# Altium integrated library Microchip UNIO Serial EEPROM.IntLib: 98 symbols (part 1 of 3)
Pins are listed as number, name and electrical type; pins without a type are passive.

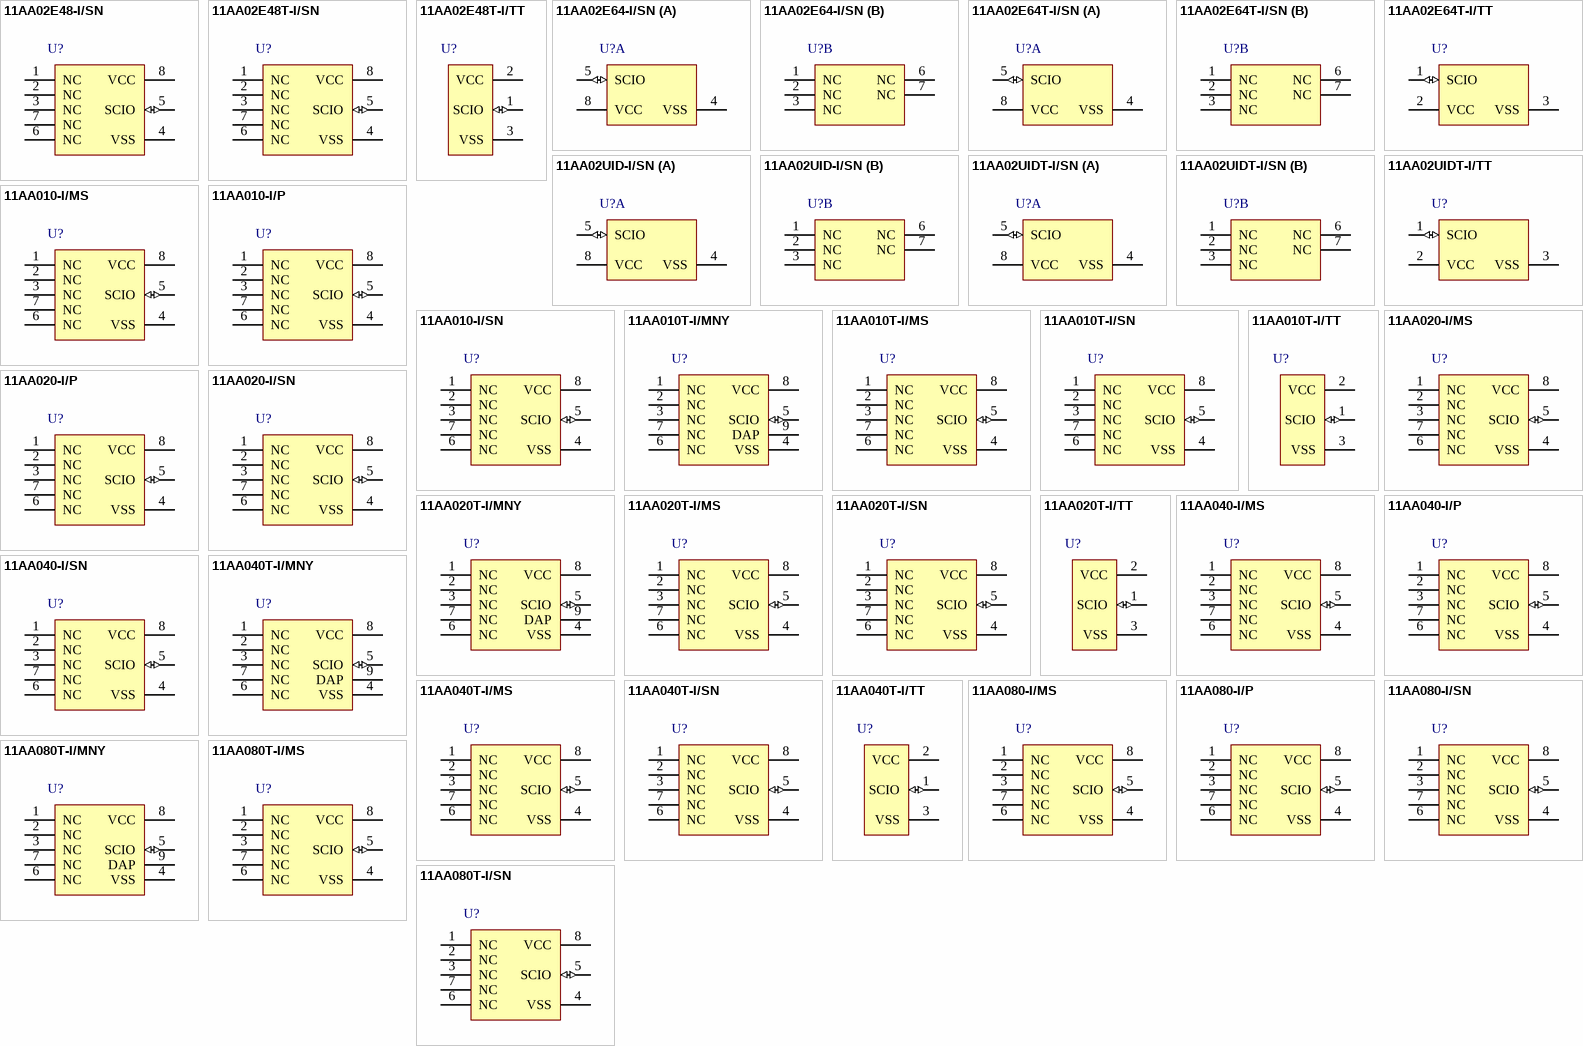
[diagram p0: symbols 11AA02E48-I/SN to 11AA080T-I/SN]

## 11AA02E48-I/SN
designator U?
2K UNI/O® Serial EEPROM with EUI-48 Node Identity, 8-Pin SOIC, Industrial Temperature; Manufacturer: Microchip; PartNumber: 11AA02E48-I/SN; DatasheetVersion: revA, Dec-2008; PackageVersion: revBB, Aug-2009; PackageReference: SOIC-SN8; PackageDescription: 8-Lead Plastic Small Outline (SN) - Narrow, 3.90mm Body [SOIC]; Supplier 1: Digi-Key; Supplier Part Number 1: 11AA02E48-I/SN-ND; Supplier 2: Farnell; Supplier Part Number 2: 1707615; Supplier 3: Newark; Supplier Part Number 3: 45P4890; Supplier 4: Mouser; Supplier Part Number 4: 579-11AA02E48-I/SN; Mounting Technology: Surface Mount; Code_JEDEC: MS-012; Code_IPC: SOIC127P600-8; ComponentLink1Description: Manufacturer URL; ComponentLink1URL: http://www.microchip.com/; ComponentLink2Description: Datasheet; ComponentLink2URL: http://ww1.microchip.com/downloads/en/DeviceDoc/22122A.pdf; ComponentLink3Description: Package Specification; ComponentLink3URL: http://www.microchip.com/stellent/groups/techpub_sg/documents/packagingspec/en012702.pdf
footprint SOIC-SN8_N (SOIC, 8-Leads, Body 4.9x3.8mm, Pitch 1.27mm, IPC Medium Density)
footprint SOIC-SN8_L (SOIC, 8-Leads, Body 4.9x3.8mm, Pitch 1.27mm, IPC High Density)
footprint SOIC-SN8_M (SOIC, 8-Leads, Body 4.9x3.8mm, Pitch 1.27mm, IPC Low Density)
pins: 1 NC, 2 NC, 3 NC, 4 VSS (power), 5 SCIO (io), 6 NC, 7 NC, 8 VCC (power)

## 11AA02E48T-I/SN
designator U?
2K UNI/O® Serial EEPROM with EUI-48 Node Identity, 8-Pin SOIC, Industrial Temperature, Tape and Reel; Manufacturer: Microchip; PartNumber: 11AA02E48T-I/SN; DatasheetVersion: revA, Dec-2008; PackageVersion: revBB, Aug-2009; PackageReference: SOIC-SN8; PackageDescription: 8-Lead Plastic Small Outline (SN) - Narrow, 3.90mm Body [SOIC]; Supplier 1: Digi-Key; Supplier Part Number 1: 11AA02E48T-I/SN-ND; Supplier 2: Mouser; Supplier Part Number 2: 579-11AA02E48T-I/SN; Mounting Technology: Surface Mount; Code_JEDEC: MS-012; Code_IPC: SOIC127P600-8; ComponentLink1Description: Manufacturer URL; ComponentLink1URL: http://www.microchip.com/; ComponentLink2Description: Datasheet; ComponentLink2URL: http://ww1.microchip.com/downloads/en/DeviceDoc/22122A.pdf; ComponentLink3Description: Package Specification; ComponentLink3URL: http://www.microchip.com/stellent/groups/techpub_sg/documents/packagingspec/en012702.pdf
footprint SOIC-SN8_N (SOIC, 8-Leads, Body 4.9x3.8mm, Pitch 1.27mm, IPC Medium Density)
footprint SOIC-SN8_L (SOIC, 8-Leads, Body 4.9x3.8mm, Pitch 1.27mm, IPC High Density)
footprint SOIC-SN8_M (SOIC, 8-Leads, Body 4.9x3.8mm, Pitch 1.27mm, IPC Low Density)
pins: 1 NC, 2 NC, 3 NC, 4 VSS (power), 5 SCIO (io), 6 NC, 7 NC, 8 VCC (power)

## 11AA02E48T-I/TT
designator U?
2K UNI/O® Serial EEPROM with EUI-48 Node Identity, 3-Pin SOT-23, Industrial Temperature, Tape and Reel; Manufacturer: Microchip; PartNumber: 11AA02E48T-I/TT; DatasheetVersion: revA, Dec-2008; PackageVersion: revBB, Aug-2009; PackageReference: SOT-23-TT3; PackageDescription: 3-Lead Plastic Small Outline Transistor (TT) [SOT-23]; Supplier 1: Digi-Key; Supplier Part Number 1: 11AA02E48T-I/TTTR-ND; Supplier 2: Digi-Key; Supplier Part Number 2: 11AA02E48T-I/TTCT-ND; Supplier 3: Digi-Key; Supplier Part Number 3: 11AA02E48T-I/TTDKR-ND; Supplier 4: Farnell; Supplier Part Number 4: 1707616RL; Supplier 5: Farnell; Supplier Part Number 5: 1707616; Supplier 6: Newark; Supplier Part Number 6: 45P4892; Supplier 7: Mouser; Supplier Part Number 7: 579-11AA02E48T-I/TT; Mounting Technology: Surface Mount; Code_IPC: SOT23-3; ComponentLink1Description: Manufacturer URL; ComponentLink1URL: http://www.microchip.com/; ComponentLink2Description: Datasheet; ComponentLink2URL: http://ww1.microchip.com/downloads/en/DeviceDoc/22122A.pdf; ComponentLink3Description: Package Specification; ComponentLink3URL: http://www.microchip.com/stellent/groups/techpub_sg/documents/packagingspec/en012702.pdf
footprint SOT-23-TT3_N (SOT23, 3-Leads, Body 2.9x1.3mm, Pitch 0.95mm, Lead Span 2.4mm, IPC Medium Density)
footprint SOT-23-TT3_L (SOT23, 3-Leads, Body 2.9x1.3mm, Pitch 0.95mm, Lead Span 2.4mm, IPC High Density)
footprint SOT-23-TT3_M (SOT23, 3-Leads, Body 2.9x1.3mm, Pitch 0.95mm, Lead Span 2.4mm, IPC Low Density)
pins: 1 SCIO (io), 2 VCC (power), 3 VSS (power)

## 11AA02E64-I/SN
designator U?
2K UNI/O(R) Serial EEPROMs with EUI-64 Node Identity, Industrial Temperature, 8-Pin SOIC (SN8), Tube; Manufacturer: Microchip; PartNumber: 11AA02E64-I/SN; VCC Range: 1.8 to 5.5 V; DatasheetVersion: Rev. B; PackageVersion: C04-057C, 12/2012; PackageReference: SOIC-SN8; PackageDescription: 8-Lead Plastic Small Outline, 4.9 x 3.9 mm Body, 1.27 mm Pitch; Supplier 1: Digi-Key; Supplier Part Number 1: 11AA02E64-I/SN-ND; Supplier 2: Farnell; Supplier Part Number 2: 2345562; Supplier 3: Newark; Supplier Part Number 3: 66W7453; Supplier 4: Newark; Supplier Part Number 4: 01X0294; Supplier 5: Mouser; Supplier Part Number 5: 579-11AA02E64-I/SN; Packing: Tube; Mounting Technology: Surface Mount; ComponentLink1Description: Manufacturer URL; ComponentLink1URL: http://www.microchip.com/; ComponentLink2Description: Datasheet; ComponentLink2URL: http://ww1.microchip.com/downloads/en/DeviceDoc/20002122B.pdf; ComponentLink3Description: Package Specification; ComponentLink3URL: http://ww1.microchip.com/downloads/en/DeviceDoc/20002122B.pdf
footprint MCHP-SOIC-SN8_N (SOIC, 8-Leads, Body 4.9x3.9mm, Pitch 1.27mm, IPC Medium Density)
footprint MCHP-SOIC-SN8_L (SOIC, 8-Leads, Body 4.9x3.9mm, Pitch 1.27mm, IPC High Density)
footprint MCHP-SOIC-SN8_M (SOIC, 8-Leads, Body 4.9x3.9mm, Pitch 1.27mm, IPC Low Density)
part A pins: 4 VSS (power) "Ground", 5 SCIO (io) "Serial Clock, Data Input/Output", 8 VCC (power) "Supply Voltage"
part B pins: 1 NC "No Internal Connection", 2 NC "No Internal Connection", 3 NC "No Internal Connection", 6 NC "No Internal Connection", 7 NC "No Internal Connection"

## 11AA02E64T-I/SN
designator U?
2K UNI/O(R) Serial EEPROMs with EUI-64 Node Identity, Industrial Temperature, 8-Pin SOIC (SN8), Tape and Reel; Manufacturer: Microchip; PartNumber: 11AA02E64T-I/SN; VCC Range: 1.8 to 5.5 V; DatasheetVersion: Rev. B; PackageVersion: C04-057C, 12/2012; PackageReference: SOIC-SN8; PackageDescription: 8-Lead Plastic Small Outline, 4.9 x 3.9 mm Body, 1.27 mm Pitch; Supplier 1: Digi-Key; Supplier Part Number 1: 11AA02E64T-I/SN-ND; Supplier 2: Newark; Supplier Part Number 2: 66W7454; Supplier 3: Mouser; Supplier Part Number 3: 579-11AA02E64T-I/SN; Packing: Tape and Reel; Mounting Technology: Surface Mount; ComponentLink1Description: Manufacturer URL; ComponentLink1URL: http://www.microchip.com/; ComponentLink2Description: Datasheet; ComponentLink2URL: http://ww1.microchip.com/downloads/en/DeviceDoc/20002122B.pdf; ComponentLink3Description: Package Specification; ComponentLink3URL: http://ww1.microchip.com/downloads/en/DeviceDoc/20002122B.pdf
footprint MCHP-SOIC-SN8_N (SOIC, 8-Leads, Body 4.9x3.9mm, Pitch 1.27mm, IPC Medium Density)
footprint MCHP-SOIC-SN8_L (SOIC, 8-Leads, Body 4.9x3.9mm, Pitch 1.27mm, IPC High Density)
footprint MCHP-SOIC-SN8_M (SOIC, 8-Leads, Body 4.9x3.9mm, Pitch 1.27mm, IPC Low Density)
part A pins: 4 VSS (power) "Ground", 5 SCIO (io) "Serial Clock, Data Input/Output", 8 VCC (power) "Supply Voltage"
part B pins: 1 NC "No Internal Connection", 2 NC "No Internal Connection", 3 NC "No Internal Connection", 6 NC "No Internal Connection", 7 NC "No Internal Connection"

## 11AA02E64T-I/TT
designator U?
2K UNI/O(R) Serial EEPROMs with EUI-64 Node Identity, Industrial Temperature, 3-Pin SOT-23 (TT3), Tape and Reel; Manufacturer: Microchip; PartNumber: 11AA02E64T-I/TT; VCC Range: 1.8 to 5.5 V; DatasheetVersion: Rev. B; PackageVersion: C04-104B, 12/2012; PackageReference: SOT-23-TT3; PackageDescription: 3-Lead Plastic Small Outline Transistor, 2.9 x 1.3 mm Body, 0.95 mm Pitch; Supplier 1: Digi-Key; Supplier Part Number 1: 11AA02E64T-I/TTTR-ND; Supplier 2: Digi-Key; Supplier Part Number 2: 11AA02E64T-I/TTCT-ND; Supplier 3: Digi-Key; Supplier Part Number 3: 11AA02E64T-I/TTDKR-ND; Supplier 4: Farnell; Supplier Part Number 4: 2345563; Supplier 5: Farnell; Supplier Part Number 5: 2347517; Supplier 6: Newark; Supplier Part Number 6: 99W1948; Supplier 7: Newark; Supplier Part Number 7: 66W7455; Supplier 8: Newark; Supplier Part Number 8: 01X0295; Supplier 9: Mouser; Supplier Part Number 9: 579-11AA02E64T-I/TT; Packing: Tape and Reel; Mounting Technology: Surface Mount; ComponentLink1Description: Manufacturer URL; ComponentLink1URL: http://www.microchip.com/; ComponentLink2Description: Datasheet; ComponentLink2URL: http://ww1.microchip.com/downloads/en/DeviceDoc/20002122B.pdf; ComponentLink3Description: Package Specification; ComponentLink3URL: http://www.microchip.com/stellent/groups/techpub_sg/documents/packagingspec/en012702.pdf
footprint MCHP-SOT-23-TT3_N (SOT23, 3-Leads, Body 2.86x1.28mm, Pitch 0.95mm, IPC Medium Density)
footprint MCHP-SOT-23-TT3_L (SOT23, 3-Leads, Body 2.86x1.28mm, Pitch 0.95mm, IPC High Density)
footprint MCHP-SOT-23-TT3_M (SOT23, 3-Leads, Body 2.86x1.28mm, Pitch 0.95mm, IPC Low Density)
pins: 1 SCIO (io) "Serial Clock, Data Input/Output", 2 VCC (power) "Supply Voltage", 3 VSS (power) "Ground"

## 11AA02UID-I/SN
designator U?
2K UNI/O(R) Serial EEPROM with Unique 32-Bit Serial Number, Industrial Temperature, 8-Pin SOIC (SN8), Tube; Manufacturer: Microchip; PartNumber: 11AA02UID-I/SN; VCC Range: 1.8 to 5.5 V; DatasheetVersion: Rev. A; PackageVersion: C04-057C, 12/2012; PackageReference: SOIC-SN8; PackageDescription: 8-Lead Plastic Small Outline, 4.9 x 3.9 mm Body, 1.27 mm Pitch; Supplier 1: Digi-Key; Supplier Part Number 1: 11AA02UID-I/SN-ND; Supplier 2: Farnell; Supplier Part Number 2: 2345550; Supplier 3: Newark; Supplier Part Number 3: 70W1147; Supplier 4: Newark; Supplier Part Number 4: 01X0296; Supplier 5: Mouser; Supplier Part Number 5: 579-11AA02UID-I/SN; Packing: Tube; Mounting Technology: Surface Mount; ComponentLink1Description: Manufacturer URL; ComponentLink1URL: http://www.microchip.com/; ComponentLink2Description: Datasheet; ComponentLink2URL: http://ww1.microchip.com/downloads/en/DeviceDoc/20005206A.pdf; ComponentLink3Description: Package Specification; ComponentLink3URL: http://ww1.microchip.com/downloads/en/DeviceDoc/20002122B.pdf
footprint MCHP-SOIC-SN8_N (SOIC, 8-Leads, Body 4.9x3.9mm, Pitch 1.27mm, IPC Medium Density)
footprint MCHP-SOIC-SN8_L (SOIC, 8-Leads, Body 4.9x3.9mm, Pitch 1.27mm, IPC High Density)
footprint MCHP-SOIC-SN8_M (SOIC, 8-Leads, Body 4.9x3.9mm, Pitch 1.27mm, IPC Low Density)
part A pins: 4 VSS (power) "Ground", 5 SCIO (io) "Serial Clock, Data Input/Output", 8 VCC (power) "Supply Voltage"
part B pins: 1 NC "No Internal Connection", 2 NC "No Internal Connection", 3 NC "No Internal Connection", 6 NC "No Internal Connection", 7 NC "No Internal Connection"

## 11AA02UIDT-I/SN
designator U?
2K UNI/O(R) Serial EEPROM with Unique 32-Bit Serial Number, Industrial Temperature, 8-Pin SOIC (SN8), Tape and Reel; Manufacturer: Microchip; PartNumber: 11AA02UIDT-I/SN; VCC Range: 1.8 to 5.5 V; DatasheetVersion: Rev. A; PackageVersion: C04-057C, 12/2012; PackageReference: SOIC-SN8; PackageDescription: 8-Lead Plastic Small Outline, 4.9 x 3.9 mm Body, 1.27 mm Pitch; Supplier 1: Digi-Key; Supplier Part Number 1: 11AA02UIDT-I/SN-ND; Supplier 2: Newark; Supplier Part Number 2: 70W1148; Supplier 3: Mouser; Supplier Part Number 3: 579-11AA02UIDT-I/SN; Packing: Tape and Reel; Mounting Technology: Surface Mount; ComponentLink1Description: Manufacturer URL; ComponentLink1URL: http://www.microchip.com/; ComponentLink2Description: Datasheet; ComponentLink2URL: http://ww1.microchip.com/downloads/en/DeviceDoc/20005206A.pdf; ComponentLink3Description: Package Specification; ComponentLink3URL: http://ww1.microchip.com/downloads/en/DeviceDoc/20002122B.pdf
footprint MCHP-SOIC-SN8_N (SOIC, 8-Leads, Body 4.9x3.9mm, Pitch 1.27mm, IPC Medium Density)
footprint MCHP-SOIC-SN8_L (SOIC, 8-Leads, Body 4.9x3.9mm, Pitch 1.27mm, IPC High Density)
footprint MCHP-SOIC-SN8_M (SOIC, 8-Leads, Body 4.9x3.9mm, Pitch 1.27mm, IPC Low Density)
part A pins: 4 VSS (power) "Ground", 5 SCIO (io) "Serial Clock, Data Input/Output", 8 VCC (power) "Supply Voltage"
part B pins: 1 NC "No Internal Connection", 2 NC "No Internal Connection", 3 NC "No Internal Connection", 6 NC "No Internal Connection", 7 NC "No Internal Connection"

## 11AA02UIDT-I/TT
designator U?
2K UNI/O(R) Serial EEPROM with Unique 32-Bit Serial Number, Industrial Temperature, 3-Pin SOT-23 (TT3), Tape and Reel; Manufacturer: Microchip; PartNumber: 11AA02UIDT-I/TT; VCC Range: 1.8 to 5.5 V; DatasheetVersion: Rev. A; PackageVersion: C04-104B, 12/2012; PackageReference: SOT-23-TT3; PackageDescription: 3-Lead Plastic Small Outline Transistor, 2.9 x 1.3 mm Body, 0.95 mm Pitch; Supplier 1: Digi-Key; Supplier Part Number 1: 11AA02UIDT-I/TTTR-ND; Supplier 2: Digi-Key; Supplier Part Number 2: 11AA02UIDT-I/TTCT-ND; Supplier 3: Digi-Key; Supplier Part Number 3: 11AA02UIDT-I/TTDKR-ND; Supplier 4: Farnell; Supplier Part Number 4: 2345551; Supplier 5: Farnell; Supplier Part Number 5: 2347524; Supplier 6: Newark; Supplier Part Number 6: 99W1949; Supplier 7: Newark; Supplier Part Number 7: 70W1149; Supplier 8: Newark; Supplier Part Number 8: 01X0297; Supplier 9: Mouser; Supplier Part Number 9: 579-11AA02UIDT-I/TT; Packing: Tape and Reel; Mounting Technology: Surface Mount; ComponentLink1Description: Manufacturer URL; ComponentLink1URL: http://www.microchip.com/; ComponentLink2Description: Datasheet; ComponentLink2URL: http://ww1.microchip.com/downloads/en/DeviceDoc/20005206A.pdf; ComponentLink3Description: Package Specification; ComponentLink3URL: http://www.microchip.com/stellent/groups/techpub_sg/documents/packagingspec/en012702.pdf
footprint MCHP-SOT-23-TT3_N (SOT23, 3-Leads, Body 2.86x1.28mm, Pitch 0.95mm, IPC Medium Density)
footprint MCHP-SOT-23-TT3_L (SOT23, 3-Leads, Body 2.86x1.28mm, Pitch 0.95mm, IPC High Density)
footprint MCHP-SOT-23-TT3_M (SOT23, 3-Leads, Body 2.86x1.28mm, Pitch 0.95mm, IPC Low Density)
pins: 1 SCIO (io) "Serial Clock, Data Input/Output", 2 VCC (power) "Supply Voltage", 3 VSS (power) "Ground"

## 11AA010-I/MS
designator U?
1KBit UNI/O® Serial EEPROM, 8-Pin MSOP, Industrial Temperature; Manufacturer: Microchip; PartNumber: 11AA010-I/MS; DatasheetVersion: revF, Oct-2009; PackageVersion: revBB, Aug-2009; PackageReference: MSOP-MS8; PackageDescription: 8-Lead Plastic Micro Small Outline Package (MS) [MSOP]; Supplier 1: Digi-Key; Supplier Part Number 1: 11AA010-I/MS-ND; Supplier 2: Mouser; Supplier Part Number 2: 579-11AA010-I/MS; Mounting Technology: Surface Mount; ComponentLink1Description: Manufacturer URL; ComponentLink1URL: http://www.microchip.com/; ComponentLink2Description: Datasheet; ComponentLink2URL: http://ww1.microchip.com/downloads/en/DeviceDoc/22067F.pdf; ComponentLink3Description: Package Specification; ComponentLink3URL: http://www.microchip.com/stellent/groups/techpub_sg/documents/packagingspec/en012702.pdf
footprint MSOP-MS8_N (TSOP, 8-Leads, Body 3x3mm, Pitch 0.65mm, IPC Medium Density)
footprint MSOP-MS8_L (TSOP, 8-Leads, Body 3x3mm, Pitch 0.65mm, IPC High Density)
footprint MSOP-MS8_M (TSOP, 8-Leads, Body 3x3mm, Pitch 0.65mm, IPC Low Density)
pins: 1 NC, 2 NC, 3 NC, 4 VSS (power), 5 SCIO (io), 6 NC, 7 NC, 8 VCC (power)

## 11AA010-I/P
designator U?
1KBit UNI/O® Serial EEPROM, 8-Pin PDIP, Industrial Temperature; Manufacturer: Microchip; PartNumber: 11AA010-I/P; DatasheetVersion: revF, Oct-2009; PackageVersion: revBB, Aug-2009; PackageReference: PDIP300-P8; PackageDescription: 8-Lead Plastic Dual In-Line (P) - 300 mil Body [PDIP]; Supplier 1: Digi-Key; Supplier Part Number 1: 11AA010-I/P-ND; Supplier 2: Farnell; Supplier Part Number 2: 1578282; Supplier 3: Newark; Supplier Part Number 3: 98M4922; Supplier 4: Mouser; Supplier Part Number 4: 579-11AA010-I/P; Mounting Technology: Through Hole; Code_JEDEC: MS-001; ComponentLink1Description: Manufacturer URL; ComponentLink1URL: http://www.microchip.com/; ComponentLink2Description: Datasheet; ComponentLink2URL: http://ww1.microchip.com/downloads/en/DeviceDoc/22067F.pdf; ComponentLink3Description: Package Specification; ComponentLink3URL: http://www.microchip.com/stellent/groups/techpub_sg/documents/packagingspec/en012702.pdf
footprint PDIP300-P8 (DIP, 8-Leads, Row Spacing 7.62mm, Pitch 2.54mm, Body 9.5x6.6mm)
pins: 1 NC, 2 NC, 3 NC, 4 VSS (power), 5 SCIO (io), 6 NC, 7 NC, 8 VCC (power)

## 11AA010-I/SN
designator U?
1KBit UNI/O® Serial EEPROM, 8-Pin SOIC, Industrial Temperature; Manufacturer: Microchip; PartNumber: 11AA010-I/SN; DatasheetVersion: revF, Oct-2009; PackageVersion: revBB, Aug-2009; PackageReference: SOIC-SN8; PackageDescription: 8-Lead Plastic Small Outline (SN) - Narrow, 3.90mm Body [SOIC]; Supplier 1: Digi-Key; Supplier Part Number 1: 11AA010-I/SN-ND; Supplier 2: Newark; Supplier Part Number 2: 98M4923; Supplier 3: Mouser; Supplier Part Number 3: 579-11AA010-I/SN; Mounting Technology: Surface Mount; Code_JEDEC: MS-012; Code_IPC: SOIC127P600-8; ComponentLink1Description: Manufacturer URL; ComponentLink1URL: http://www.microchip.com/; ComponentLink2Description: Datasheet; ComponentLink2URL: http://ww1.microchip.com/downloads/en/DeviceDoc/22067F.pdf; ComponentLink3Description: Package Specification; ComponentLink3URL: http://www.microchip.com/stellent/groups/techpub_sg/documents/packagingspec/en012702.pdf
footprint SOIC-SN8_N (SOIC, 8-Leads, Body 4.9x3.8mm, Pitch 1.27mm, IPC Medium Density)
footprint SOIC-SN8_L (SOIC, 8-Leads, Body 4.9x3.8mm, Pitch 1.27mm, IPC High Density)
footprint SOIC-SN8_M (SOIC, 8-Leads, Body 4.9x3.8mm, Pitch 1.27mm, IPC Low Density)
pins: 1 NC, 2 NC, 3 NC, 4 VSS (power), 5 SCIO (io), 6 NC, 7 NC, 8 VCC (power)

## 11AA010T-I/MNY
designator U?
1KBit UNI/O® Serial EEPROM, 8-Pin TDFN, Industrial Temperature, Tape and Reel; Manufacturer: Microchip; PartNumber: 11AA010T-I/MNY; DatasheetVersion: revF, Oct-2009; PackageVersion: revBB, Aug-2009; PackageReference: TDFN-MN8; PackageDescription: 8-Lead Plastic Dual Flat, No Lead Package (MN) - 2x3x0.75mm Body [TDFN]; Supplier 1: Digi-Key; Supplier Part Number 1: 11AA010T-I/MNYTR-ND; Supplier 2: Digi-Key; Supplier Part Number 2: 11AA010T-I/MNYCT-ND; Supplier 3: Digi-Key; Supplier Part Number 3: 11AA010T-I/MNYDKR-ND; Supplier 4: Farnell; Supplier Part Number 4: 1670434RL; Supplier 5: Farnell; Supplier Part Number 5: 1670434; Supplier 6: Newark; Supplier Part Number 6: 98M4924; Supplier 7: Mouser; Supplier Part Number 7: 579-11AA010T-I/MNY; Mounting Technology: Surface Mount; ComponentLink1Description: Manufacturer URL; ComponentLink1URL: http://www.microchip.com/; ComponentLink2Description: Datasheet; ComponentLink2URL: http://ww1.microchip.com/downloads/en/DeviceDoc/22067F.pdf; ComponentLink3Description: Package Specification; ComponentLink3URL: http://www.microchip.com/stellent/groups/techpub_sg/documents/packagingspec/en012702.pdf
footprint TDFN-MN8 (SON, 8-Leads, Body 2x3mm, Pitch 0.5mm, Microchip Recommended)
pins: 1 NC, 2 NC, 3 NC, 4 VSS (power), 5 SCIO (io), 6 NC, 7 NC, 8 VCC (power), 9 DAP

## 11AA010T-I/MS
designator U?
1KBit UNI/O® Serial EEPROM, 8-Pin MSOP, Industrial Temperature, Tape and Reel; Manufacturer: Microchip; PartNumber: 11AA010T-I/MS; DatasheetVersion: revF, Oct-2009; PackageVersion: revBB, Aug-2009; PackageReference: MSOP-MS8; PackageDescription: 8-Lead Plastic Micro Small Outline Package (MS) [MSOP]; Supplier 1: Digi-Key; Supplier Part Number 1: 11AA010T-I/MS-ND; Supplier 2: Mouser; Supplier Part Number 2: 579-11AA010T-I/MS; Mounting Technology: Surface Mount; ComponentLink1Description: Manufacturer URL; ComponentLink1URL: http://www.microchip.com/; ComponentLink2Description: Datasheet; ComponentLink2URL: http://ww1.microchip.com/downloads/en/DeviceDoc/22067F.pdf; ComponentLink3Description: Package Specification; ComponentLink3URL: http://www.microchip.com/stellent/groups/techpub_sg/documents/packagingspec/en012702.pdf
footprint MSOP-MS8_N (TSOP, 8-Leads, Body 3x3mm, Pitch 0.65mm, IPC Medium Density)
footprint MSOP-MS8_L (TSOP, 8-Leads, Body 3x3mm, Pitch 0.65mm, IPC High Density)
footprint MSOP-MS8_M (TSOP, 8-Leads, Body 3x3mm, Pitch 0.65mm, IPC Low Density)
pins: 1 NC, 2 NC, 3 NC, 4 VSS (power), 5 SCIO (io), 6 NC, 7 NC, 8 VCC (power)

## 11AA010T-I/SN
designator U?
1KBit UNI/O® Serial EEPROM, 8-Pin SOIC, Industrial Temperature, Tape and Reel; Manufacturer: Microchip; PartNumber: 11AA010T-I/SN; DatasheetVersion: revF, Oct-2009; PackageVersion: revBB, Aug-2009; PackageReference: SOIC-SN8; PackageDescription: 8-Lead Plastic Small Outline (SN) - Narrow, 3.90mm Body [SOIC]; Supplier 1: Digi-Key; Supplier Part Number 1: 11AA010T-I/SN-ND; Supplier 2: Mouser; Supplier Part Number 2: 579-11AA010T-I/SN; Mounting Technology: Surface Mount; Code_JEDEC: MS-012; Code_IPC: SOIC127P600-8; ComponentLink1Description: Manufacturer URL; ComponentLink1URL: http://www.microchip.com/; ComponentLink2Description: Datasheet; ComponentLink2URL: http://ww1.microchip.com/downloads/en/DeviceDoc/22067F.pdf; ComponentLink3Description: Package Specification; ComponentLink3URL: http://www.microchip.com/stellent/groups/techpub_sg/documents/packagingspec/en012702.pdf
footprint SOIC-SN8_N (SOIC, 8-Leads, Body 4.9x3.8mm, Pitch 1.27mm, IPC Medium Density)
footprint SOIC-SN8_L (SOIC, 8-Leads, Body 4.9x3.8mm, Pitch 1.27mm, IPC High Density)
footprint SOIC-SN8_M (SOIC, 8-Leads, Body 4.9x3.8mm, Pitch 1.27mm, IPC Low Density)
pins: 1 NC, 2 NC, 3 NC, 4 VSS (power), 5 SCIO (io), 6 NC, 7 NC, 8 VCC (power)

## 11AA010T-I/TT
designator U?
1KBit UNI/O® Serial EEPROM, 3-Pin SOT-23, Industrial Temperature, Tape and Reel; Manufacturer: Microchip; PartNumber: 11AA010T-I/TT; DatasheetVersion: revF, Oct-2009; PackageVersion: revBB, Aug-2009; PackageReference: SOT-23-TT3; PackageDescription: 3-Lead Plastic Small Outline Transistor (TT) [SOT-23]; Supplier 1: Digi-Key; Supplier Part Number 1: 11AA010T-I/TTTR-ND; Supplier 2: Digi-Key; Supplier Part Number 2: 11AA010T-I/TTCT-ND; Supplier 3: Digi-Key; Supplier Part Number 3: 11AA010T-I/TTDKR-ND; Supplier 4: Farnell; Supplier Part Number 4: 1578281; Supplier 5: Farnell; Supplier Part Number 5: 1578281RL; Supplier 6: Newark; Supplier Part Number 6: 98M4927; Supplier 7: Mouser; Supplier Part Number 7: 579-11AA010T-I/TT; Mounting Technology: Surface Mount; Code_IPC: SOT23-3; ComponentLink1Description: Manufacturer URL; ComponentLink1URL: http://www.microchip.com/; ComponentLink2Description: Datasheet; ComponentLink2URL: http://ww1.microchip.com/downloads/en/DeviceDoc/22067F.pdf; ComponentLink3Description: Package Specification; ComponentLink3URL: http://www.microchip.com/stellent/groups/techpub_sg/documents/packagingspec/en012702.pdf
footprint SOT-23-TT3_N (SOT23, 3-Leads, Body 2.9x1.3mm, Pitch 0.95mm, Lead Span 2.4mm, IPC Medium Density)
footprint SOT-23-TT3_L (SOT23, 3-Leads, Body 2.9x1.3mm, Pitch 0.95mm, Lead Span 2.4mm, IPC High Density)
footprint SOT-23-TT3_M (SOT23, 3-Leads, Body 2.9x1.3mm, Pitch 0.95mm, Lead Span 2.4mm, IPC Low Density)
pins: 1 SCIO (io), 2 VCC (power), 3 VSS (power)

## 11AA020-I/MS
designator U?
2KBit UNI/O® Serial EEPROM, 8-Pin MSOP, Industrial Temperature; Manufacturer: Microchip; PartNumber: 11AA020-I/MS; DatasheetVersion: revF, Oct-2009; PackageVersion: revBB, Aug-2009; PackageReference: MSOP-MS8; PackageDescription: 8-Lead Plastic Micro Small Outline Package (MS) [MSOP]; Supplier 1: Digi-Key; Supplier Part Number 1: 11AA020-I/MS-ND; Supplier 2: Mouser; Supplier Part Number 2: 579-11AA020-I/MS; Mounting Technology: Surface Mount; ComponentLink1Description: Manufacturer URL; ComponentLink1URL: http://www.microchip.com/; ComponentLink2Description: Datasheet; ComponentLink2URL: http://ww1.microchip.com/downloads/en/DeviceDoc/22067F.pdf; ComponentLink3Description: Package Specification; ComponentLink3URL: http://www.microchip.com/stellent/groups/techpub_sg/documents/packagingspec/en012702.pdf
footprint MSOP-MS8_N (TSOP, 8-Leads, Body 3x3mm, Pitch 0.65mm, IPC Medium Density)
footprint MSOP-MS8_L (TSOP, 8-Leads, Body 3x3mm, Pitch 0.65mm, IPC High Density)
footprint MSOP-MS8_M (TSOP, 8-Leads, Body 3x3mm, Pitch 0.65mm, IPC Low Density)
pins: 1 NC, 2 NC, 3 NC, 4 VSS (power), 5 SCIO (io), 6 NC, 7 NC, 8 VCC (power)

## 11AA020-I/P
designator U?
2KBit UNI/O® Serial EEPROM, 8-Pin PDIP, Industrial Temperature; Manufacturer: Microchip; PartNumber: 11AA020-I/P; DatasheetVersion: revF, Oct-2009; PackageVersion: revBB, Aug-2009; PackageReference: PDIP300-P8; PackageDescription: 8-Lead Plastic Dual In-Line (P) - 300 mil Body [PDIP]; Supplier 1: Digi-Key; Supplier Part Number 1: 11AA020-I/P-ND; Supplier 2: Farnell; Supplier Part Number 2: 1578289; Supplier 3: Newark; Supplier Part Number 3: 98M4930; Supplier 4: Mouser; Supplier Part Number 4: 579-11AA020-I/P; Mounting Technology: Through Hole; Code_JEDEC: MS-001; ComponentLink1Description: Manufacturer URL; ComponentLink1URL: http://www.microchip.com/; ComponentLink2Description: Datasheet; ComponentLink2URL: http://ww1.microchip.com/downloads/en/DeviceDoc/22067F.pdf; ComponentLink3Description: Package Specification; ComponentLink3URL: http://www.microchip.com/stellent/groups/techpub_sg/documents/packagingspec/en012702.pdf
footprint PDIP300-P8 (DIP, 8-Leads, Row Spacing 7.62mm, Pitch 2.54mm, Body 9.5x6.6mm)
pins: 1 NC, 2 NC, 3 NC, 4 VSS (power), 5 SCIO (io), 6 NC, 7 NC, 8 VCC (power)

## 11AA020-I/SN
designator U?
2KBit UNI/O® Serial EEPROM, 8-Pin SOIC, Industrial Temperature; Manufacturer: Microchip; PartNumber: 11AA020-I/SN; DatasheetVersion: revF, Oct-2009; PackageVersion: revBB, Aug-2009; PackageReference: SOIC-SN8; PackageDescription: 8-Lead Plastic Small Outline (SN) - Narrow, 3.90mm Body [SOIC]; Supplier 1: Digi-Key; Supplier Part Number 1: 11AA020-I/SN-ND; Supplier 2: Farnell; Supplier Part Number 2: 1578290; Supplier 3: Newark; Supplier Part Number 3: 98M4931; Supplier 4: Mouser; Supplier Part Number 4: 579-11AA020-I/SN; Mounting Technology: Surface Mount; Code_JEDEC: MS-012; Code_IPC: SOIC127P600-8; ComponentLink1Description: Manufacturer URL; ComponentLink1URL: http://www.microchip.com/; ComponentLink2Description: Datasheet; ComponentLink2URL: http://ww1.microchip.com/downloads/en/DeviceDoc/22067F.pdf; ComponentLink3Description: Package Specification; ComponentLink3URL: http://www.microchip.com/stellent/groups/techpub_sg/documents/packagingspec/en012702.pdf
footprint SOIC-SN8_N (SOIC, 8-Leads, Body 4.9x3.8mm, Pitch 1.27mm, IPC Medium Density)
footprint SOIC-SN8_L (SOIC, 8-Leads, Body 4.9x3.8mm, Pitch 1.27mm, IPC High Density)
footprint SOIC-SN8_M (SOIC, 8-Leads, Body 4.9x3.8mm, Pitch 1.27mm, IPC Low Density)
pins: 1 NC, 2 NC, 3 NC, 4 VSS (power), 5 SCIO (io), 6 NC, 7 NC, 8 VCC (power)

## 11AA020T-I/MNY
designator U?
2KBit UNI/O® Serial EEPROM, 8-Pin TDFN, Industrial Temperature, Tape and Reel; Manufacturer: Microchip; PartNumber: 11AA020T-I/MNY; DatasheetVersion: revF, Oct-2009; PackageVersion: revBB, Aug-2009; PackageReference: TDFN-MN8; PackageDescription: 8-Lead Plastic Dual Flat, No Lead Package (MN) - 2x3x0.75mm Body [TDFN]; Supplier 1: Digi-Key; Supplier Part Number 1: 11AA020T-I/MNYTR-ND; Supplier 2: Digi-Key; Supplier Part Number 2: 11AA020T-I/MNYCT-ND; Supplier 3: Digi-Key; Supplier Part Number 3: 11AA020T-I/MNYDKR-ND; Supplier 4: Farnell; Supplier Part Number 4: 1670435; Supplier 5: Farnell; Supplier Part Number 5: 1670435RL; Supplier 6: Newark; Supplier Part Number 6: 98M4932; Supplier 7: Mouser; Supplier Part Number 7: 579-11AA020T-I/MNY; Mounting Technology: Surface Mount; ComponentLink1Description: Manufacturer URL; ComponentLink1URL: http://www.microchip.com/; ComponentLink2Description: Datasheet; ComponentLink2URL: http://ww1.microchip.com/downloads/en/DeviceDoc/22067F.pdf; ComponentLink3Description: Package Specification; ComponentLink3URL: http://www.microchip.com/stellent/groups/techpub_sg/documents/packagingspec/en012702.pdf
footprint TDFN-MN8 (SON, 8-Leads, Body 2x3mm, Pitch 0.5mm, Microchip Recommended)
pins: 1 NC, 2 NC, 3 NC, 4 VSS (power), 5 SCIO (io), 6 NC, 7 NC, 8 VCC (power), 9 DAP

## 11AA020T-I/MS
designator U?
2KBit UNI/O® Serial EEPROM, 8-Pin MSOP, Industrial Temperature, Tape and Reel; Manufacturer: Microchip; PartNumber: 11AA020T-I/MS; DatasheetVersion: revF, Oct-2009; PackageVersion: revBB, Aug-2009; PackageReference: MSOP-MS8; PackageDescription: 8-Lead Plastic Micro Small Outline Package (MS) [MSOP]; Supplier 1: Digi-Key; Supplier Part Number 1: 11AA020T-I/MS-ND; Supplier 2: Mouser; Supplier Part Number 2: 579-11AA020T-I/MS; Mounting Technology: Surface Mount; ComponentLink1Description: Manufacturer URL; ComponentLink1URL: http://www.microchip.com/; ComponentLink2Description: Datasheet; ComponentLink2URL: http://ww1.microchip.com/downloads/en/DeviceDoc/22067F.pdf; ComponentLink3Description: Package Specification; ComponentLink3URL: http://www.microchip.com/stellent/groups/techpub_sg/documents/packagingspec/en012702.pdf
footprint MSOP-MS8_N (TSOP, 8-Leads, Body 3x3mm, Pitch 0.65mm, IPC Medium Density)
footprint MSOP-MS8_L (TSOP, 8-Leads, Body 3x3mm, Pitch 0.65mm, IPC High Density)
footprint MSOP-MS8_M (TSOP, 8-Leads, Body 3x3mm, Pitch 0.65mm, IPC Low Density)
pins: 1 NC, 2 NC, 3 NC, 4 VSS (power), 5 SCIO (io), 6 NC, 7 NC, 8 VCC (power)

## 11AA020T-I/SN
designator U?
2KBit UNI/O® Serial EEPROM, 8-Pin SOIC, Industrial Temperature, Tape and Reel; Manufacturer: Microchip; PartNumber: 11AA020T-I/SN; DatasheetVersion: revF, Oct-2009; PackageVersion: revBB, Aug-2009; PackageReference: SOIC-SN8; PackageDescription: 8-Lead Plastic Small Outline (SN) - Narrow, 3.90mm Body [SOIC]; Supplier 1: Digi-Key; Supplier Part Number 1: 11AA020T-I/SN-ND; Supplier 2: Mouser; Supplier Part Number 2: 579-11AA020T-I/SN; Mounting Technology: Surface Mount; Code_JEDEC: MS-012; Code_IPC: SOIC127P600-8; ComponentLink1Description: Manufacturer URL; ComponentLink1URL: http://www.microchip.com/; ComponentLink2Description: Datasheet; ComponentLink2URL: http://ww1.microchip.com/downloads/en/DeviceDoc/22067F.pdf; ComponentLink3Description: Package Specification; ComponentLink3URL: http://www.microchip.com/stellent/groups/techpub_sg/documents/packagingspec/en012702.pdf
footprint SOIC-SN8_N (SOIC, 8-Leads, Body 4.9x3.8mm, Pitch 1.27mm, IPC Medium Density)
footprint SOIC-SN8_L (SOIC, 8-Leads, Body 4.9x3.8mm, Pitch 1.27mm, IPC High Density)
footprint SOIC-SN8_M (SOIC, 8-Leads, Body 4.9x3.8mm, Pitch 1.27mm, IPC Low Density)
pins: 1 NC, 2 NC, 3 NC, 4 VSS (power), 5 SCIO (io), 6 NC, 7 NC, 8 VCC (power)

## 11AA020T-I/TT
designator U?
2KBit UNI/O® Serial EEPROM, 3-Pin SOT-23, Industrial Temperature, Tape and Reel; Manufacturer: Microchip; PartNumber: 11AA020T-I/TT; DatasheetVersion: revF, Oct-2009; PackageVersion: revBB, Aug-2009; PackageReference: SOT-23-TT3; PackageDescription: 3-Lead Plastic Small Outline Transistor (TT) [SOT-23]; Supplier 1: Digi-Key; Supplier Part Number 1: 11AA020T-I/TTTR-ND; Supplier 2: Digi-Key; Supplier Part Number 2: 11AA020T-I/TTCT-ND; Supplier 3: Digi-Key; Supplier Part Number 3: 11AA020T-I/TTDKR-ND; Supplier 4: Farnell; Supplier Part Number 4: 1578288RL; Supplier 5: Farnell; Supplier Part Number 5: 1578288; Supplier 6: Newark; Supplier Part Number 6: 98M4935; Supplier 7: Mouser; Supplier Part Number 7: 579-11AA020T-I/TT; Mounting Technology: Surface Mount; Code_IPC: SOT23-3; ComponentLink1Description: Manufacturer URL; ComponentLink1URL: http://www.microchip.com/; ComponentLink2Description: Datasheet; ComponentLink2URL: http://ww1.microchip.com/downloads/en/DeviceDoc/22067F.pdf; ComponentLink3Description: Package Specification; ComponentLink3URL: http://www.microchip.com/stellent/groups/techpub_sg/documents/packagingspec/en012702.pdf
footprint SOT-23-TT3_N (SOT23, 3-Leads, Body 2.9x1.3mm, Pitch 0.95mm, Lead Span 2.4mm, IPC Medium Density)
footprint SOT-23-TT3_L (SOT23, 3-Leads, Body 2.9x1.3mm, Pitch 0.95mm, Lead Span 2.4mm, IPC High Density)
footprint SOT-23-TT3_M (SOT23, 3-Leads, Body 2.9x1.3mm, Pitch 0.95mm, Lead Span 2.4mm, IPC Low Density)
pins: 1 SCIO (io), 2 VCC (power), 3 VSS (power)

## 11AA040-I/MS
designator U?
4KBit UNI/O® Serial EEPROM, 8-Pin MSOP, Industrial Temperature; Manufacturer: Microchip; PartNumber: 11AA040-I/MS; DatasheetVersion: revF, Oct-2009; PackageVersion: revBB, Aug-2009; PackageReference: MSOP-MS8; PackageDescription: 8-Lead Plastic Micro Small Outline Package (MS) [MSOP]; Supplier 1: Digi-Key; Supplier Part Number 1: 11AA040-I/MS-ND; Supplier 2: Mouser; Supplier Part Number 2: 579-11AA040-I/MS; Mounting Technology: Surface Mount; ComponentLink1Description: Manufacturer URL; ComponentLink1URL: http://www.microchip.com/; ComponentLink2Description: Datasheet; ComponentLink2URL: http://ww1.microchip.com/downloads/en/DeviceDoc/22067F.pdf; ComponentLink3Description: Package Specification; ComponentLink3URL: http://www.microchip.com/stellent/groups/techpub_sg/documents/packagingspec/en012702.pdf
footprint MSOP-MS8_N (TSOP, 8-Leads, Body 3x3mm, Pitch 0.65mm, IPC Medium Density)
footprint MSOP-MS8_L (TSOP, 8-Leads, Body 3x3mm, Pitch 0.65mm, IPC High Density)
footprint MSOP-MS8_M (TSOP, 8-Leads, Body 3x3mm, Pitch 0.65mm, IPC Low Density)
pins: 1 NC, 2 NC, 3 NC, 4 VSS (power), 5 SCIO (io), 6 NC, 7 NC, 8 VCC (power)

## 11AA040-I/P
designator U?
4KBit UNI/O® Serial EEPROM, 8-Pin PDIP, Industrial Temperature; Manufacturer: Microchip; PartNumber: 11AA040-I/P; DatasheetVersion: revF, Oct-2009; PackageVersion: revBB, Aug-2009; PackageReference: PDIP300-P8; PackageDescription: 8-Lead Plastic Dual In-Line (P) - 300 mil Body [PDIP]; Supplier 1: Digi-Key; Supplier Part Number 1: 11AA040-I/P-ND; Supplier 2: Farnell; Supplier Part Number 2: 1578295; Supplier 3: Newark; Supplier Part Number 3: 98M4938; Supplier 4: Mouser; Supplier Part Number 4: 579-11AA040-I/P; Mounting Technology: Through Hole; Code_JEDEC: MS-001; ComponentLink1Description: Manufacturer URL; ComponentLink1URL: http://www.microchip.com/; ComponentLink2Description: Datasheet; ComponentLink2URL: http://ww1.microchip.com/downloads/en/DeviceDoc/22067F.pdf; ComponentLink3Description: Package Specification; ComponentLink3URL: http://www.microchip.com/stellent/groups/techpub_sg/documents/packagingspec/en012702.pdf
footprint PDIP300-P8 (DIP, 8-Leads, Row Spacing 7.62mm, Pitch 2.54mm, Body 9.5x6.6mm)
pins: 1 NC, 2 NC, 3 NC, 4 VSS (power), 5 SCIO (io), 6 NC, 7 NC, 8 VCC (power)

## 11AA040-I/SN
designator U?
4KBit UNI/O® Serial EEPROM, 8-Pin SOIC, Industrial Temperature; Manufacturer: Microchip; PartNumber: 11AA040-I/SN; DatasheetVersion: revF, Oct-2009; PackageVersion: revBB, Aug-2009; PackageReference: SOIC-SN8; PackageDescription: 8-Lead Plastic Small Outline (SN) - Narrow, 3.90mm Body [SOIC]; Supplier 1: Digi-Key; Supplier Part Number 1: 11AA040-I/SN-ND; Supplier 2: Farnell; Supplier Part Number 2: 1578296; Supplier 3: Newark; Supplier Part Number 3: 98M4939; Supplier 4: Mouser; Supplier Part Number 4: 579-11AA040-I/SN; Mounting Technology: Surface Mount; Code_JEDEC: MS-012; Code_IPC: SOIC127P600-8; ComponentLink1Description: Manufacturer URL; ComponentLink1URL: http://www.microchip.com/; ComponentLink2Description: Datasheet; ComponentLink2URL: http://ww1.microchip.com/downloads/en/DeviceDoc/22067F.pdf; ComponentLink3Description: Package Specification; ComponentLink3URL: http://www.microchip.com/stellent/groups/techpub_sg/documents/packagingspec/en012702.pdf
footprint SOIC-SN8_N (SOIC, 8-Leads, Body 4.9x3.8mm, Pitch 1.27mm, IPC Medium Density)
footprint SOIC-SN8_L (SOIC, 8-Leads, Body 4.9x3.8mm, Pitch 1.27mm, IPC High Density)
footprint SOIC-SN8_M (SOIC, 8-Leads, Body 4.9x3.8mm, Pitch 1.27mm, IPC Low Density)
pins: 1 NC, 2 NC, 3 NC, 4 VSS (power), 5 SCIO (io), 6 NC, 7 NC, 8 VCC (power)

## 11AA040T-I/MNY
designator U?
4KBit UNI/O® Serial EEPROM, 8-Pin TDFN, Industrial Temperature, Tape and Reel; Manufacturer: Microchip; PartNumber: 11AA040T-I/MNY; DatasheetVersion: revF, Oct-2009; PackageVersion: revBB, Aug-2009; PackageReference: TDFN-MN8; PackageDescription: 8-Lead Plastic Dual Flat, No Lead Package (MN) - 2x3x0.75mm Body [TDFN]; Supplier 1: Digi-Key; Supplier Part Number 1: 11AA040T-I/MNYTR-ND; Supplier 2: Digi-Key; Supplier Part Number 2: 11AA040T-I/MNYCT-ND; Supplier 3: Digi-Key; Supplier Part Number 3: 11AA040T-I/MNYDKR-ND; Supplier 4: Farnell; Supplier Part Number 4: 1659723RL; Supplier 5: Farnell; Supplier Part Number 5: 1659723; Supplier 6: Newark; Supplier Part Number 6: 98M4940; Supplier 7: Mouser; Supplier Part Number 7: 579-11AA040T-I/MNY; Mounting Technology: Surface Mount; ComponentLink1Description: Manufacturer URL; ComponentLink1URL: http://www.microchip.com/; ComponentLink2Description: Datasheet; ComponentLink2URL: http://ww1.microchip.com/downloads/en/DeviceDoc/22067F.pdf; ComponentLink3Description: Package Specification; ComponentLink3URL: http://www.microchip.com/stellent/groups/techpub_sg/documents/packagingspec/en012702.pdf
footprint TDFN-MN8 (SON, 8-Leads, Body 2x3mm, Pitch 0.5mm, Microchip Recommended)
pins: 1 NC, 2 NC, 3 NC, 4 VSS (power), 5 SCIO (io), 6 NC, 7 NC, 8 VCC (power), 9 DAP

## 11AA040T-I/MS
designator U?
4KBit UNI/O® Serial EEPROM, 8-Pin MSOP, Industrial Temperature, Tape and Reel; Manufacturer: Microchip; PartNumber: 11AA040T-I/MS; DatasheetVersion: revF, Oct-2009; PackageVersion: revBB, Aug-2009; PackageReference: MSOP-MS8; PackageDescription: 8-Lead Plastic Micro Small Outline Package (MS) [MSOP]; Supplier 1: Digi-Key; Supplier Part Number 1: 11AA040T-I/MS-ND; Supplier 2: Mouser; Supplier Part Number 2: 579-11AA040T-I/MS; Mounting Technology: Surface Mount; ComponentLink1Description: Manufacturer URL; ComponentLink1URL: http://www.microchip.com/; ComponentLink2Description: Datasheet; ComponentLink2URL: http://ww1.microchip.com/downloads/en/DeviceDoc/22067F.pdf; ComponentLink3Description: Package Specification; ComponentLink3URL: http://www.microchip.com/stellent/groups/techpub_sg/documents/packagingspec/en012702.pdf
footprint MSOP-MS8_N (TSOP, 8-Leads, Body 3x3mm, Pitch 0.65mm, IPC Medium Density)
footprint MSOP-MS8_L (TSOP, 8-Leads, Body 3x3mm, Pitch 0.65mm, IPC High Density)
footprint MSOP-MS8_M (TSOP, 8-Leads, Body 3x3mm, Pitch 0.65mm, IPC Low Density)
pins: 1 NC, 2 NC, 3 NC, 4 VSS (power), 5 SCIO (io), 6 NC, 7 NC, 8 VCC (power)

## 11AA040T-I/SN
designator U?
4KBit UNI/O® Serial EEPROM, 8-Pin SOIC, Industrial Temperature, Tape and Reel; Manufacturer: Microchip; PartNumber: 11AA040T-I/SN; DatasheetVersion: revF, Oct-2009; PackageVersion: revBB, Aug-2009; PackageReference: SOIC-SN8; PackageDescription: 8-Lead Plastic Small Outline (SN) - Narrow, 3.90mm Body [SOIC]; Supplier 1: Digi-Key; Supplier Part Number 1: 11AA040T-I/SN-ND; Supplier 2: Mouser; Supplier Part Number 2: 579-11AA040T-I/SN; Mounting Technology: Surface Mount; Code_JEDEC: MS-012; Code_IPC: SOIC127P600-8; ComponentLink1Description: Manufacturer URL; ComponentLink1URL: http://www.microchip.com/; ComponentLink2Description: Datasheet; ComponentLink2URL: http://ww1.microchip.com/downloads/en/DeviceDoc/22067F.pdf; ComponentLink3Description: Package Specification; ComponentLink3URL: http://www.microchip.com/stellent/groups/techpub_sg/documents/packagingspec/en012702.pdf
footprint SOIC-SN8_N (SOIC, 8-Leads, Body 4.9x3.8mm, Pitch 1.27mm, IPC Medium Density)
footprint SOIC-SN8_L (SOIC, 8-Leads, Body 4.9x3.8mm, Pitch 1.27mm, IPC High Density)
footprint SOIC-SN8_M (SOIC, 8-Leads, Body 4.9x3.8mm, Pitch 1.27mm, IPC Low Density)
pins: 1 NC, 2 NC, 3 NC, 4 VSS (power), 5 SCIO (io), 6 NC, 7 NC, 8 VCC (power)

## 11AA040T-I/TT
designator U?
4KBit UNI/O® Serial EEPROM, 3-Pin SOT-23, Industrial Temperature, Tape and Reel; Manufacturer: Microchip; PartNumber: 11AA040T-I/TT; DatasheetVersion: revF, Oct-2009; PackageVersion: revBB, Aug-2009; PackageReference: SOT-23-TT3; PackageDescription: 3-Lead Plastic Small Outline Transistor (TT) [SOT-23]; Supplier 1: Digi-Key; Supplier Part Number 1: 11AA040T-I/TTTR-ND; Supplier 2: Digi-Key; Supplier Part Number 2: 11AA040T-I/TTCT-ND; Supplier 3: Digi-Key; Supplier Part Number 3: 11AA040T-I/TTDKR-ND; Supplier 4: Newark; Supplier Part Number 4: 98M4943; Supplier 5: Mouser; Supplier Part Number 5: 579-11AA040T-I/TT; Mounting Technology: Surface Mount; Code_IPC: SOT23-3; ComponentLink1Description: Manufacturer URL; ComponentLink1URL: http://www.microchip.com/; ComponentLink2Description: Datasheet; ComponentLink2URL: http://ww1.microchip.com/downloads/en/DeviceDoc/22067F.pdf; ComponentLink3Description: Package Specification; ComponentLink3URL: http://www.microchip.com/stellent/groups/techpub_sg/documents/packagingspec/en012702.pdf
footprint SOT-23-TT3_N (SOT23, 3-Leads, Body 2.9x1.3mm, Pitch 0.95mm, Lead Span 2.4mm, IPC Medium Density)
footprint SOT-23-TT3_L (SOT23, 3-Leads, Body 2.9x1.3mm, Pitch 0.95mm, Lead Span 2.4mm, IPC High Density)
footprint SOT-23-TT3_M (SOT23, 3-Leads, Body 2.9x1.3mm, Pitch 0.95mm, Lead Span 2.4mm, IPC Low Density)
pins: 1 SCIO (io), 2 VCC (power), 3 VSS (power)

## 11AA080-I/MS
designator U?
8KBit UNI/O® Serial EEPROM, 8-Pin MSOP, Industrial Temperature; Manufacturer: Microchip; PartNumber: 11AA080-I/MS; DatasheetVersion: revF, Oct-2009; PackageVersion: revBB, Aug-2009; PackageReference: MSOP-MS8; PackageDescription: 8-Lead Plastic Micro Small Outline Package (MS) [MSOP]; Supplier 1: Digi-Key; Supplier Part Number 1: 11AA080-I/MS-ND; Supplier 2: Mouser; Supplier Part Number 2: 579-11AA080-I/MS; Mounting Technology: Surface Mount; ComponentLink1Description: Manufacturer URL; ComponentLink1URL: http://www.microchip.com/; ComponentLink2Description: Datasheet; ComponentLink2URL: http://ww1.microchip.com/downloads/en/DeviceDoc/22067F.pdf; ComponentLink3Description: Package Specification; ComponentLink3URL: http://www.microchip.com/stellent/groups/techpub_sg/documents/packagingspec/en012702.pdf
footprint MSOP-MS8_N (TSOP, 8-Leads, Body 3x3mm, Pitch 0.65mm, IPC Medium Density)
footprint MSOP-MS8_L (TSOP, 8-Leads, Body 3x3mm, Pitch 0.65mm, IPC High Density)
footprint MSOP-MS8_M (TSOP, 8-Leads, Body 3x3mm, Pitch 0.65mm, IPC Low Density)
pins: 1 NC, 2 NC, 3 NC, 4 VSS (power), 5 SCIO (io), 6 NC, 7 NC, 8 VCC (power)

## 11AA080-I/P
designator U?
8KBit UNI/O® Serial EEPROM, 8-Pin PDIP, Industrial Temperature; Manufacturer: Microchip; PartNumber: 11AA080-I/P; DatasheetVersion: revF, Oct-2009; PackageVersion: revBB, Aug-2009; PackageReference: PDIP300-P8; PackageDescription: 8-Lead Plastic Dual In-Line (P) - 300 mil Body [PDIP]; Supplier 1: Digi-Key; Supplier Part Number 1: 11AA080-I/P-ND; Supplier 2: Farnell; Supplier Part Number 2: 1578304; Supplier 3: Newark; Supplier Part Number 3: 98M4946; Supplier 4: Mouser; Supplier Part Number 4: 579-11AA080-I/P; Mounting Technology: Through Hole; Code_JEDEC: MS-001; ComponentLink1Description: Manufacturer URL; ComponentLink1URL: http://www.microchip.com/; ComponentLink2Description: Datasheet; ComponentLink2URL: http://ww1.microchip.com/downloads/en/DeviceDoc/22067F.pdf; ComponentLink3Description: Package Specification; ComponentLink3URL: http://www.microchip.com/stellent/groups/techpub_sg/documents/packagingspec/en012702.pdf
footprint PDIP300-P8 (DIP, 8-Leads, Row Spacing 7.62mm, Pitch 2.54mm, Body 9.5x6.6mm)
pins: 1 NC, 2 NC, 3 NC, 4 VSS (power), 5 SCIO (io), 6 NC, 7 NC, 8 VCC (power)

## 11AA080-I/SN
designator U?
8KBit UNI/O® Serial EEPROM, 8-Pin SOIC, Industrial Temperature; Manufacturer: Microchip; PartNumber: 11AA080-I/SN; DatasheetVersion: revF, Oct-2009; PackageVersion: revBB, Aug-2009; PackageReference: SOIC-SN8; PackageDescription: 8-Lead Plastic Small Outline (SN) - Narrow, 3.90mm Body [SOIC]; Supplier 1: Digi-Key; Supplier Part Number 1: 11AA080-I/SN-ND; Supplier 2: Farnell; Supplier Part Number 2: 1578305; Supplier 3: Newark; Supplier Part Number 3: 98M4947; Supplier 4: Mouser; Supplier Part Number 4: 579-11AA080-I/SN; Mounting Technology: Surface Mount; Code_JEDEC: MS-012; Code_IPC: SOIC127P600-8; ComponentLink1Description: Manufacturer URL; ComponentLink1URL: http://www.microchip.com/; ComponentLink2Description: Datasheet; ComponentLink2URL: http://ww1.microchip.com/downloads/en/DeviceDoc/22067F.pdf; ComponentLink3Description: Package Specification; ComponentLink3URL: http://www.microchip.com/stellent/groups/techpub_sg/documents/packagingspec/en012702.pdf
footprint SOIC-SN8_N (SOIC, 8-Leads, Body 4.9x3.8mm, Pitch 1.27mm, IPC Medium Density)
footprint SOIC-SN8_L (SOIC, 8-Leads, Body 4.9x3.8mm, Pitch 1.27mm, IPC High Density)
footprint SOIC-SN8_M (SOIC, 8-Leads, Body 4.9x3.8mm, Pitch 1.27mm, IPC Low Density)
pins: 1 NC, 2 NC, 3 NC, 4 VSS (power), 5 SCIO (io), 6 NC, 7 NC, 8 VCC (power)

## 11AA080T-I/MNY
designator U?
8KBit UNI/O® Serial EEPROM, 8-Pin TDFN, Industrial Temperature, Tape and Reel; Manufacturer: Microchip; PartNumber: 11AA080T-I/MNY; DatasheetVersion: revF, Oct-2009; PackageVersion: revBB, Aug-2009; PackageReference: TDFN-MN8; PackageDescription: 8-Lead Plastic Dual Flat, No Lead Package (MN) - 2x3x0.75mm Body [TDFN]; Supplier 1: Digi-Key; Supplier Part Number 1: 11AA080T-I/MNYTR-ND; Supplier 2: Digi-Key; Supplier Part Number 2: 11AA080T-I/MNYCT-ND; Supplier 3: Digi-Key; Supplier Part Number 3: 11AA080T-I/MNYDKR-ND; Supplier 4: Newark; Supplier Part Number 4: 98M4948; Supplier 5: Mouser; Supplier Part Number 5: 579-11AA080T-I/MNY; Mounting Technology: Surface Mount; ComponentLink1Description: Manufacturer URL; ComponentLink1URL: http://www.microchip.com/; ComponentLink2Description: Datasheet; ComponentLink2URL: http://ww1.microchip.com/downloads/en/DeviceDoc/22067F.pdf; ComponentLink3Description: Package Specification; ComponentLink3URL: http://www.microchip.com/stellent/groups/techpub_sg/documents/packagingspec/en012702.pdf
footprint TDFN-MN8 (SON, 8-Leads, Body 2x3mm, Pitch 0.5mm, Microchip Recommended)
pins: 1 NC, 2 NC, 3 NC, 4 VSS (power), 5 SCIO (io), 6 NC, 7 NC, 8 VCC (power), 9 DAP

## 11AA080T-I/MS
designator U?
8KBit UNI/O® Serial EEPROM, 8-Pin MSOP, Industrial Temperature, Tape and Reel; Manufacturer: Microchip; PartNumber: 11AA080T-I/MS; DatasheetVersion: revF, Oct-2009; PackageVersion: revBB, Aug-2009; PackageReference: MSOP-MS8; PackageDescription: 8-Lead Plastic Micro Small Outline Package (MS) [MSOP]; Supplier 1: Digi-Key; Supplier Part Number 1: 11AA080T-I/MS-ND; Supplier 2: Mouser; Supplier Part Number 2: 579-11AA080T-I/MS; Mounting Technology: Surface Mount; ComponentLink1Description: Manufacturer URL; ComponentLink1URL: http://www.microchip.com/; ComponentLink2Description: Datasheet; ComponentLink2URL: http://ww1.microchip.com/downloads/en/DeviceDoc/22067F.pdf; ComponentLink3Description: Package Specification; ComponentLink3URL: http://www.microchip.com/stellent/groups/techpub_sg/documents/packagingspec/en012702.pdf
footprint MSOP-MS8_N (TSOP, 8-Leads, Body 3x3mm, Pitch 0.65mm, IPC Medium Density)
footprint MSOP-MS8_L (TSOP, 8-Leads, Body 3x3mm, Pitch 0.65mm, IPC High Density)
footprint MSOP-MS8_M (TSOP, 8-Leads, Body 3x3mm, Pitch 0.65mm, IPC Low Density)
pins: 1 NC, 2 NC, 3 NC, 4 VSS (power), 5 SCIO (io), 6 NC, 7 NC, 8 VCC (power)

## 11AA080T-I/SN
designator U?
8KBit UNI/O® Serial EEPROM, 8-Pin SOIC, Industrial Temperature, Tape and Reel; Manufacturer: Microchip; PartNumber: 11AA080T-I/SN; DatasheetVersion: revF, Oct-2009; PackageVersion: revBB, Aug-2009; PackageReference: SOIC-SN8; PackageDescription: 8-Lead Plastic Small Outline (SN) - Narrow, 3.90mm Body [SOIC]; Supplier 1: Digi-Key; Supplier Part Number 1: 11AA080T-I/SN-ND; Supplier 2: Mouser; Supplier Part Number 2: 579-11AA080T-I/SN; Mounting Technology: Surface Mount; Code_JEDEC: MS-012; Code_IPC: SOIC127P600-8; ComponentLink1Description: Manufacturer URL; ComponentLink1URL: http://www.microchip.com/; ComponentLink2Description: Datasheet; ComponentLink2URL: http://ww1.microchip.com/downloads/en/DeviceDoc/22067F.pdf; ComponentLink3Description: Package Specification; ComponentLink3URL: http://www.microchip.com/stellent/groups/techpub_sg/documents/packagingspec/en012702.pdf
footprint SOIC-SN8_N (SOIC, 8-Leads, Body 4.9x3.8mm, Pitch 1.27mm, IPC Medium Density)
footprint SOIC-SN8_L (SOIC, 8-Leads, Body 4.9x3.8mm, Pitch 1.27mm, IPC High Density)
footprint SOIC-SN8_M (SOIC, 8-Leads, Body 4.9x3.8mm, Pitch 1.27mm, IPC Low Density)
pins: 1 NC, 2 NC, 3 NC, 4 VSS (power), 5 SCIO (io), 6 NC, 7 NC, 8 VCC (power)

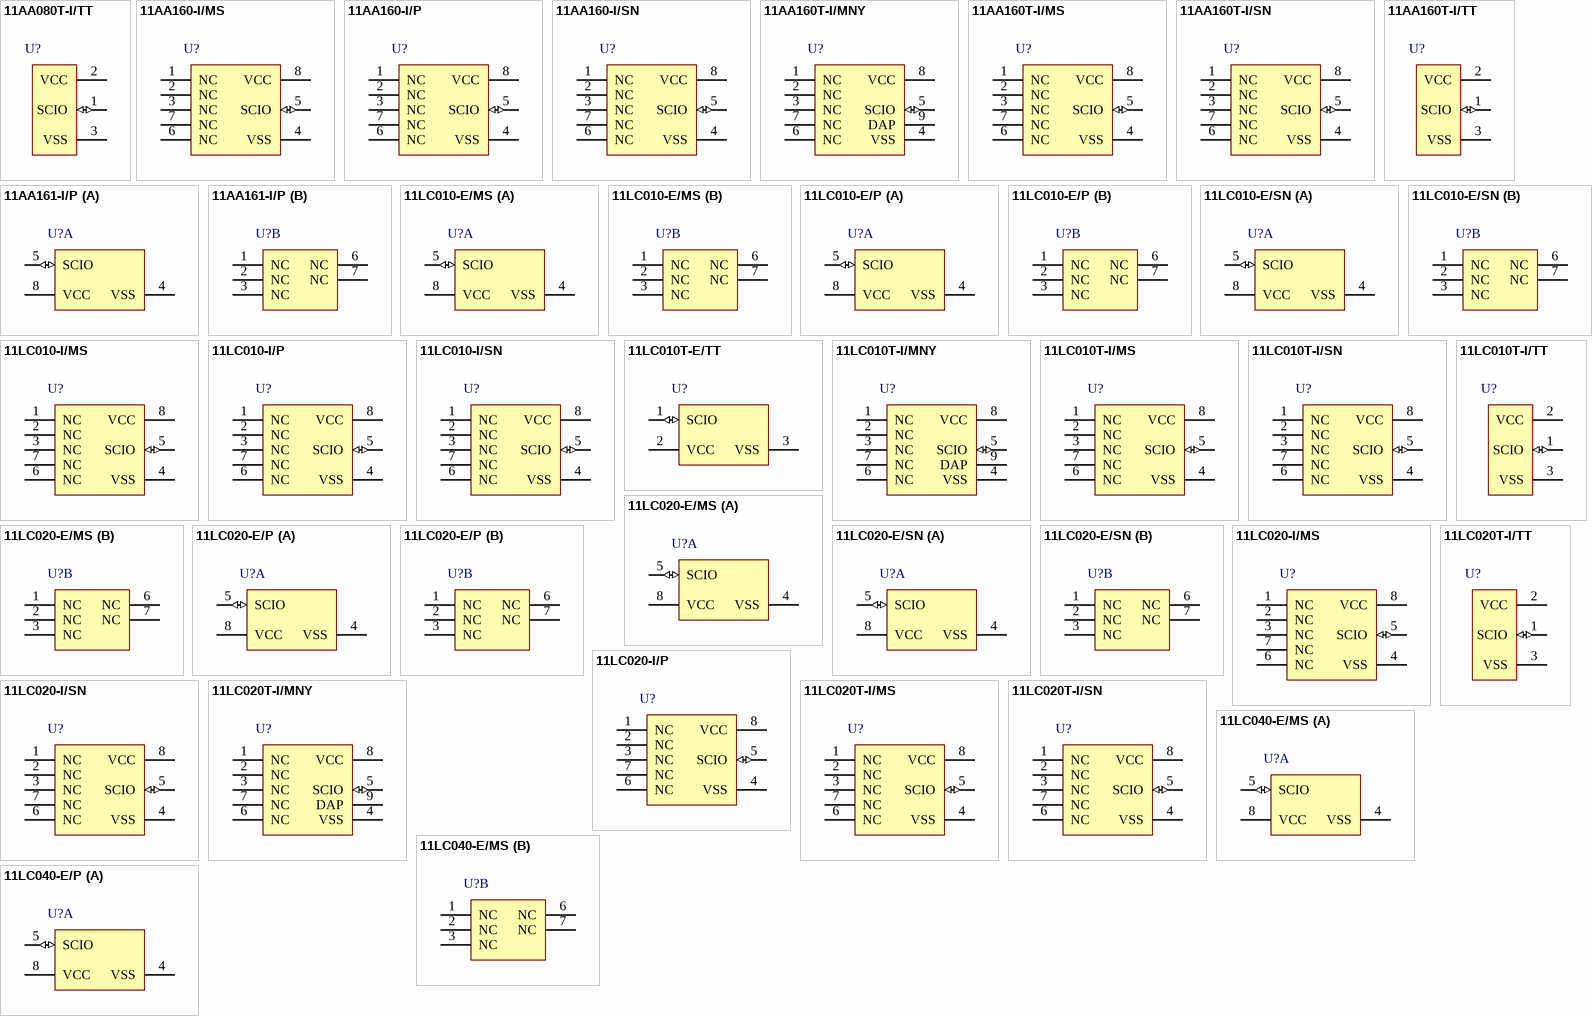
[diagram p1: symbols 11AA080T-I/TT to 11LC040-E/P]

## 11AA080T-I/TT
designator U?
8KBit UNI/O® Serial EEPROM, 3-Pin SOT-23, Industrial Temperature, Tape and Reel; Manufacturer: Microchip; PartNumber: 11AA080T-I/TT; DatasheetVersion: revF, Oct-2009; PackageVersion: revBB, Aug-2009; PackageReference: SOT-23-TT3; PackageDescription: 3-Lead Plastic Small Outline Transistor (TT) [SOT-23]; Supplier 1: Digi-Key; Supplier Part Number 1: 11AA080T-I/TTTR-ND; Supplier 2: Digi-Key; Supplier Part Number 2: 11AA080T-I/TTCT-ND; Supplier 3: Digi-Key; Supplier Part Number 3: 11AA080T-I/TTDKR-ND; Supplier 4: Newark; Supplier Part Number 4: 98M4951; Supplier 5: Mouser; Supplier Part Number 5: 579-11AA080T-I/TT; Mounting Technology: Surface Mount; Code_IPC: SOT23-3; ComponentLink1Description: Manufacturer URL; ComponentLink1URL: http://www.microchip.com/; ComponentLink2Description: Datasheet; ComponentLink2URL: http://ww1.microchip.com/downloads/en/DeviceDoc/22067F.pdf; ComponentLink3Description: Package Specification; ComponentLink3URL: http://www.microchip.com/stellent/groups/techpub_sg/documents/packagingspec/en012702.pdf
footprint SOT-23-TT3_N (SOT23, 3-Leads, Body 2.9x1.3mm, Pitch 0.95mm, Lead Span 2.4mm, IPC Medium Density)
footprint SOT-23-TT3_L (SOT23, 3-Leads, Body 2.9x1.3mm, Pitch 0.95mm, Lead Span 2.4mm, IPC High Density)
footprint SOT-23-TT3_M (SOT23, 3-Leads, Body 2.9x1.3mm, Pitch 0.95mm, Lead Span 2.4mm, IPC Low Density)
pins: 1 SCIO (io), 2 VCC (power), 3 VSS (power)